# Altium schematic symbol library BFR840L3RHESD.SchLib: 1 symbol
Pins are listed as number, name and electrical type; pins without a type are passive.

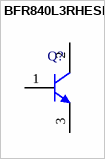
[diagram p0: symbol BFR840L3RHESD]

## BFR840L3RHESD
designator Q?
Robust low noise Silicon Germanium Bipolar RF Transistor, 2.25 V VCEO, 35 mA IC, 31 dB Gmax, TSLP-3-9, Green; Manufacturer: Infineon; PartNumber: BFR840L3RHESD; Gmax (typ): 31 dB; Green: yes; Group: For Modules in TSLP-package; IC (max): 35 mA; NFmin (typ): 0.5 dB; Ptot (max): 75.0 mW; VCEO (max): 2.25 V; DatasheetVersion: Rev. 1.1; PackageReference: TSLP-3-9; PackageDescription: 3-Pin Thin Small Leadless Package, 0.6 x 1 mm Body; Halogen-free: yes; Mounting Technology: Surface Mount; ComponentLink1Description: Manufacturer URL; ComponentLink1URL: http://www.infineon.com/; ComponentLink2Description: Datasheet; ComponentLink2URL: http://www.infineon.com/dgdl/Infineon_Robust_WiFi_SiGe_LNA_BFR840L3RHESD_Rev1_1.pdf?folderId=db3a30431f848401011fcbf2ab4c04c4&fileId=db3a304336ca04c90136e89340a135c4&location=en.Products.RF.RF_Transistors_.Ultra_Low_Noise_SiGe_C_Transistors_for_use_up_to_12_GHz.DATASHEET.Infineon_Robust_WiFi_SiGe_LNA_BFR840L3RHESD_Rev1_1.pdf; ComponentLink3Description: Package Specification; ComponentLink3URL: http://www.infineon.com/dgdl/TSLP-3-9-Package_Overview.pdf?folderId=db3a304319bc939a0119becdb18f008a&fileId=db3a304319bc939a0119bedef5a600a3
footprint INF-TSLP-3-9_V (TSLP, 3-Leads, Body 1x0.6 mm)
pins: 1 B, 2 C, 3 E